# EAGLE library part ORANGEPI_2W (library orangePI-2w)
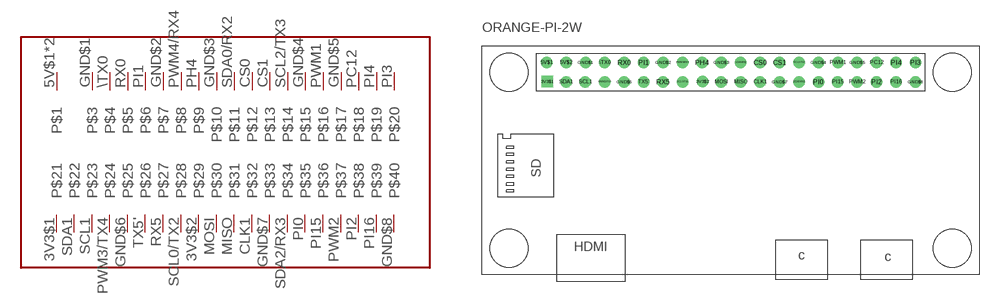
[diagram p0: symbol with the pads of ORANGEPI_2W_FOOTPRINT; footprint ORANGEPI_2W_FOOTPRINT]

Designator prefix -

## ORANGEPI_2W  [ORANGEPI_2W_FOOTPRINT]
3V3$1  P$21
3V3$2  P$29
5V$1  P$1
5V$2  P$1
\TX0  P$4
CLK1  P$32
CS0  P$12
CS1  P$13
GND$1  P$3
GND$2  P$7
GND$3  P$10
GND$4  P$15
GND$5  P$17
GND$6  P$25
GND$7  P$33
GND$8  P$40
MISO  P$31
MOSI  P$30
PC12  P$18
PH4  P$9
PI0  P$35
PI1  P$6
PI2  P$38
PI3  P$20
PI4  P$19
PI15  P$36
PI16  P$39
PWM1  P$16
PWM2  P$37
PWM3/TX4  P$24
PWM4/RX4  P$8
RX0  P$5
RX5  P$27
SCL0/TX2  P$28
SCL1  P$23
SCL2/TX3  P$14
SDA0/RX2  P$11
SDA1  P$22
SDA2/RX3  P$34
TX5'  P$26

## Footprint ORANGEPI_2W_FOOTPRINT (pad centres in mm)
drill 1 square: 3V3$1 8.5,25.3
drill 1: 3V3$2 28.82,25.3; 5V$1 8.43,27.79; 5V$2 10.97,27.79; \TX0 16.05,27.79; CLK1 36.36,25.26; CS0 36.37,27.79; CS1 38.91,27.79; GND$1 13.51,27.79; GND$2 23.67,27.79; GND$3 31.29,27.79; GND$4 43.99,27.79; GND$5 49.07,27.79; GND$6 18.59,25.25; GND$7 38.91,25.25; GND$8 56.69,25.25; MISO 33.82,25.26; MOSI 31.28,25.26; PC12 51.61,27.79; PH4 28.75,27.79; PI0 43.98,25.26; PI1 21.13,27.79; PI2 51.6,25.26; PI3 56.69,27.8; PI4 54.15,27.79; PI15 46.52,25.26; PI16 54.14,25.26; PWM1 46.53,27.79; PWM2 49.06,25.26; PWM3/TX4 16.04,25.26; PWM4/RX4 26.21,27.79; RX0 18.59,27.79; RX5 23.66,25.26; SCL0/TX2 26.2,25.26; SCL1 13.5,25.26; SCL2/TX3 41.45,27.79; SDA0/RX2 33.83,27.79; SDA1 10.96,25.26; SDA2/RX3 41.44,25.26; TX5' 21.12,25.26
hole 5 at 3.5,26.5
hole 5 at 61.5,26.5
hole 5 at 3.5,3.5
hole 5 at 61.5,3.5